# Altium footprint library Stove_Light.PcbLib: 127 footprints (part 8 of 8)
Each footprint in its own frame and in the unit in brackets; x right, y up, seen from the top. Pads: shape width x height; smd on the part's side, far side on the other; paste and mask are expansions set on the pad; w line width, h text height; cw(c..) or ccw(c..) is an arc to the next point about the centre after c.
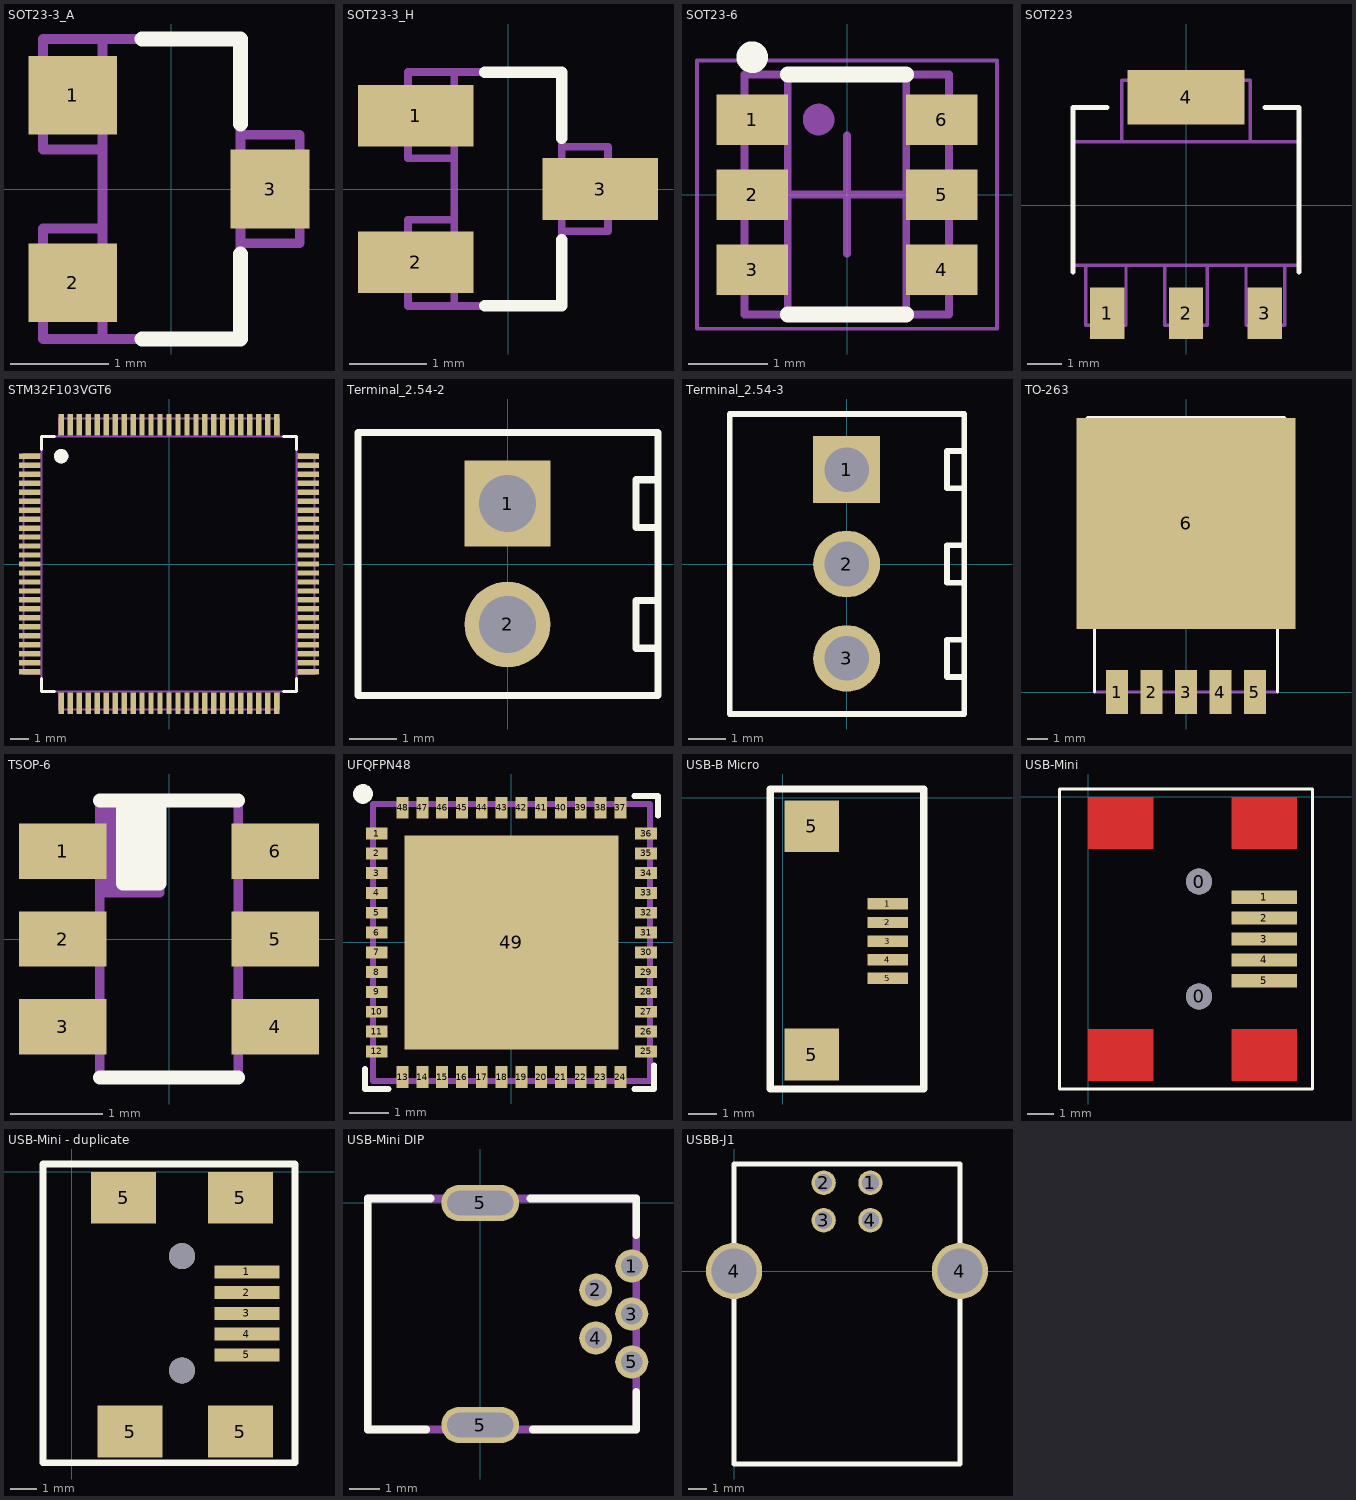
[diagram p7: the footprints below, top view; thin cyan lines are the x and y axes]

## SOT23-3_A [mm]
height 1.12
pads (3):
  rect 0.9x0.8 smd: 1(-1,0.95) 2(-1,-0.95)
  rect 0.8x0.8 smd: 3(1,0)
Top Overlay:
  lines w0.15: -0.3,-1.52 0.7,-1.52 0.7,-0.66 ; -0.3,1.52 0.7,1.52 0.7,0.66
Mechanical 9:
  text ".Designator" at -0.71,1.79 h0.8
  text ".Comment" at -0.73,-2.2 h0.8
Mechanical 11:
  lines w0.1: -0.7,-1.52 -0.7,1.52 ; -0.7,-0.4 -1.3,-0.4 -1.3,-1.52 0.7,-1.52 0.7,1.52 -1.3,1.52 -1.3,0.4 -0.7,0.4 ; 0.7,-0.55 1.3,-0.55 1.3,0.55 0.7,0.55
3D body: height 1.1, standoff 0, extent -1.15,-1.5 1.15,1.5

## SOT23-3_H [mm]
height 1.12
pads (3):
  rect 1.5x0.8 smd: 1(-1.2,0.95) 2(-1.2,-0.95) 3(1.2,0)
Top Overlay:
  lines w0.15: -0.3,-1.52 0.7,-1.52 0.7,-0.66 ; -0.3,1.52 0.7,1.52 0.7,0.66
Mechanical 7:
  lines w0.1: -0.7,-1.52 -0.7,1.52 ; -0.7,-0.4 -1.3,-0.4 -1.3,-1.52 0.7,-1.52 0.7,1.52 -1.3,1.52 -1.3,0.4 -0.7,0.4 ; 0.7,-0.55 1.3,-0.55 1.3,0.55 0.7,0.55
Mechanical 10:
  text ".Designator" at -0.71,1.79 h0.8
  text ".Comment" at -0.74,-2.17 h0.6
3D body: height 1.1, standoff 0, extent -1.15,-1.5 1.15,1.5

## SOT23-6 [mm]
height 1.12
pads (6):
  rect 0.9x0.64 smd: 1(-1.2,0.95) 2(-1.2,0) 3(-1.2,-0.95) 4(1.2,-0.95) 5(1.2,0) 6(1.2,0.95)
Top Overlay:
  circle w0.2: c-1.2,1.74 r0.1
  lines w0.2: -0.75,-1.52 0.75,-1.52 ; -0.75,1.52 0.75,1.52
Mechanical 9:
  text ".Comment" at -1,-0.75 h0.8
  text ".Designator" at -1,0.25 h1
Mechanical 11:
  circle w0.2: c-0.36,0.95 r0.1
  lines w0.1: -0.75,-1.52 -0.75,1.52 ; 0.75,-1.52 0.75,1.52 ; -1.3,-1.52 1.29,-1.52 1.29,1.52 -1.3,1.52 -1.3,-1.52
Mechanical 15:
  lines w0.05: -1.9,-1.7 1.9,-1.7 1.9,1.7 -1.9,1.7 -1.9,-1.7
  lines w0.1: -0.75,0 0.75,0 ; 0,-0.75 0,0.75
3D body: height 1.09, standoff 0, extent -1.126,-1.397 1.3,1.397

## SOT223 [mm]
pads (4):
  rect 1x1.5 smd: 1(-2.3,-3.15) 2(0,-3.15) 3(2.3,-3.15)
  rect 3.4x1.6 smd: 4(0,3.15)
Top Overlay:
  lines w0.15: -3.3,-1.95 -3.3,2.85 -2.3,2.85 ; 2.3,2.85 3.3,2.85 3.3,-1.95
Mechanical 7:
  lines w0.1: -2.9,-1.75 -2.925,-1.775 -2.925,-3.5 -1.75,-3.5 -1.75,-1.75 ; -1.875,1.875 -1.875,3.65 1.875,3.65 1.875,1.85 ; -0.625,-1.75 -0.625,-3.5 0.625,-3.5 0.625,-1.75 ; 1.75,-1.75 1.75,-3.5 2.875,-3.5 2.875,-1.75 ; -3.3,-1.75 -3.3,1.85 3.3,1.85 3.3,-1.75 -3.3,-1.75
3D body: height 0.5, standoff 0.1, extent 1.75,-3.5 2.875,-1.75
3D body: height 0.5, standoff 0.1, extent -0.625,-3.5 0.625,-1.75
3D body: height 0.5, standoff 0.1, extent -2.95,-3.5 -1.75,-1.75
3D body: height 0.5, standoff 0.1, extent -1.875,1.825 1.875,3.65
3D body: height 1.7, standoff 0, extent -3.3,-1.75 3.3,1.85

## STM32F103VGT6 [mm] "Микроконтроллер"
pads (100):
  rect 1.2x0.3 smd: 1(-7.75,6) 2(-7.75,5.5) 3(-7.75,5) 4(-7.75,4.5) 5(-7.75,4) 6(-7.75,3.5) 7(-7.75,3) 8(-7.75,2.5) 9(-7.75,2) 10(-7.75,1.5) 11(-7.75,1) 12(-7.75,0.5) 13(-7.75,0) 14(-7.75,-0.5) 15(-7.75,-1) 16(-7.75,-1.5) 17(-7.75,-2) 18(-7.75,-2.5) 19(-7.75,-3) 20(-7.75,-3.5) 21(-7.75,-4) 22(-7.75,-4.5) 23(-7.75,-5) 24(-7.75,-5.5) 25(-7.75,-6) 51(7.75,-6) 52(7.75,-5.5) 53(7.75,-5) 54(7.75,-4.5) 55(7.75,-4) 56(7.75,-3.5) 57(7.75,-3) 58(7.75,-2.5) 59(7.75,-2) 60(7.75,-1.5) 61(7.75,-1) 62(7.75,-0.5) 63(7.75,0) 64(7.75,0.5) 65(7.75,1) 66(7.75,1.5) 67(7.75,2) 68(7.75,2.5) 69(7.75,3) 70(7.75,3.5) 71(7.75,4) 72(7.75,4.5) 73(7.75,5) 74(7.75,5.5) 75(7.75,6)
  rect 0.3x1.2 smd: 26(-6,-7.75) 27(-5.5,-7.75) 28(-5,-7.75) 29(-4.5,-7.75) 30(-4,-7.75) 31(-3.5,-7.75) 32(-3,-7.75) 33(-2.5,-7.75) 34(-2,-7.75) 35(-1.5,-7.75) 36(-1,-7.75) 37(-0.5,-7.75) 38(0,-7.75) 39(0.5,-7.75) 40(1,-7.75) 41(1.5,-7.75) 42(2,-7.75) 43(2.5,-7.75) 44(3,-7.75) 45(3.5,-7.75) 46(4,-7.75) 47(4.5,-7.75) 48(5,-7.75) 49(5.5,-7.75) 50(6,-7.75) 76(6,7.75) 77(5.5,7.75) 78(5,7.75) 79(4.5,7.75) 80(4,7.75) 81(3.5,7.75) 82(3,7.75) 83(2.5,7.75) 84(2,7.75) 85(1.5,7.75) 86(1,7.75) 87(0.5,7.75) 88(0,7.75) 89(-0.5,7.75) 90(-1,7.75) 91(-1.5,7.75) 92(-2,7.75) 93(-2.5,7.75) 94(-3,7.75) 95(-3.5,7.75) 96(-4,7.75) 97(-4.5,7.75) 98(-5,7.75) 99(-5.5,7.75) 100(-6,7.75)
Top Overlay:
  circle w0.4: c-6,6 r0.2
  lines w0.15: -7.1,-6.375 -7.1,-7.1 -6.375,-7.1 ; -7.1,6.375 -7.1,7.1 -6.375,7.1 ; 6.375,-7.1 7.1,-7.1 7.1,-6.375 ; 6.375,7.1 7.1,7.1 7.1,6.375
Mechanical 7:
  circle w0.4: c-6,6 r0.2
  lines w0.1: -7.1,-6.135 -8.1,-6.135 -8.1,6.135 -7.1,6.135 ; -6.135,-7.1 -6.135,-8.1 6.135,-8.1 6.135,-7.1 ; -6.135,7.1 -6.135,8.1 6.135,8.1 6.135,7.1 ; 7.1,-6.135 8.1,-6.135 8.1,6.135 7.1,6.135 ; -7.1,-7.1 7.1,-7.1 7.1,7.1 -7.1,7.1 -7.1,-7.1
Mechanical 10:
  text ".Designator" at -1.2,0.155 h0.8
  text ".Comment" at -1.08,-0.495 h0.6
3D body: height 0.9, standoff 0, extent -6.135,-8.1 6.135,-7.1
3D body: height 0.9, standoff 0, extent 7.1,-6.135 8.1,6.135
3D body: height 0.9, standoff 0, extent -8.1,-6.135 -7.1,6.135
3D body: height 0.9, standoff 0, extent -6.135,7.1 6.135,8.1
3D body: height 1.6, standoff 0, extent -7.1,-7.1 7.1,7.1

## Terminal_2.54-2 [mm]
height 8.5
pads (2):
  rect 1.8x1.8 hole 1.2: 1(0,1.27)
  round 1.8 hole 1.2: 2(0,-1.27)
Top Overlay:
  lines w0.15: 3.16,-1.77 2.7,-1.77 2.7,-0.77 3.16,-0.77 ; 3.16,0.77 2.7,0.77 2.7,1.77 3.16,1.77 ; -3.14,-2.765 -3.14,2.765 3.16,2.765 3.16,-2.765 -3.14,-2.765
Mechanical 9:
  text ".Comment" at -1.15,3.275 h0.6
  text ".Designator" at -1.175,3.975 h0.8
Mechanical 11:
  lines w0.1: 3.16,-1.77 2.7,-1.77 2.7,-0.77 3.16,-0.77 ; 3.16,0.77 2.7,0.77 2.7,1.77 3.16,1.77 ; -3.14,-2.765 3.16,-2.765 3.16,2.765 -3.14,2.765 -3.14,-2.765
3D body: height 8.5, standoff -3.5, extent -3.075,-2.775 3.125,2.765

## Terminal_2.54-3 [mm]
height 8.5
pads (3):
  rect 1.8x1.8 hole 1.2: 1(0,2.54)
  round 1.8 hole 1.2: 2(0,0) 3(0,-2.54)
Top Overlay:
  lines w0.15: 3.16,-3.04 2.7,-3.04 2.7,-2.04 3.16,-2.04 ; 3.16,-0.5 2.7,-0.5 2.7,0.5 3.16,0.5 ; 3.16,2.04 2.7,2.04 2.7,3.04 3.16,3.04 ; -3.14,-4.035 -3.14,4.035 3.16,4.035 3.16,-4.035 -3.14,-4.035
Mechanical 7:
  lines w0.1: 3.16,-3.04 2.7,-3.04 2.7,-2.04 3.16,-2.04 ; 3.16,-0.5 2.7,-0.5 2.7,0.5 3.16,0.5 ; 3.16,2.04 2.7,2.04 2.7,3.04 3.16,3.04 ; -3.14,-4.035 3.16,-4.035 3.16,4.035 -3.14,4.035 -3.14,-4.035
Mechanical 10:
  text ".Comment" at -1.15,4.545 h0.6
  text ".Designator" at -1.175,5.245 h0.8
3D body: height 8.5, standoff 0, extent -3.14,-4.035 3.16,4.035

## TO-263 [mm]
pads (6):
  rect 1.07x2.16 smd: 1(-3.4,0) 2(-1.7,0) 3(0,0) 4(1.7,0) 5(3.4,0)
  rect 10.8x10.41 smd: 6(0,8.315)
Top Overlay:
  lines w0.15: -5.258,12.27 5.232,12.27 ; -4.51,0 -4.51,3.7 ; 4.51,0 4.51,3.7 ; -5.258,3.7 5.232,3.7 5.232,13.168 4.86,13.54 -4.86,13.54 -5.258,13.142 -5.258,3.7
Mechanical 7:
  lines w0.15: -5.25,12.27 -5.25,3.7 5.25,3.7 5.25,12.27 ; -4.51,3.7 -4.51,0 4.51,0 4.51,3.7 ; -5.1,12.27 -5.1,12.4 -3.96,13.54 3.962,13.54 5.232,12.27 -5.1,12.27
Mechanical 10:
  text ".Comment" at -1.3,17 h0.7
  text ".Designator" at -1.3,-2.8 h0.7
3D body: height 4.58, standoff 0, extent -5.08,-0.9 5.1,13.45

## TSOP-6 [mm]
height 1
pads (6):
  rect 0.95x0.6 smd mask+0: 1(-1.15,0.95) 2(-1.15,0) 3(-1.15,-0.95) 4(1.15,-0.95) 5(1.15,0) 6(1.15,0.95)
Top Overlay:
  rectangle: -0.5,0.6 -0.1,1.5
  lines w0.15: -0.75,-1.5 0.75,-1.5 ; -0.75,1.5 0.75,1.5 ; -0.5,1.5 -0.5,0.6 -0.1,0.6 -0.1,1.5
Mechanical 7:
  rectangle: -0.75,0.5 -0.1,1.5
  lines w0.1: -0.75,0.5 -0.1,0.5 -0.1,1.5 ; 0.7,1.5 -0.75,1.5 -0.75,-1.5 0.75,-1.5 0.75,1.5
Mechanical 10:
  text ".Designator" at -1.1,1.8 h0.8
  text ".Comment" at -0.9,-2.1 h0.6
3D body: height 1, standoff 0, extent -0.8,-1.5 0.8,1.5

## UFQFPN48 [mm]
pads (49):
  rect 0.55x0.3 smd: 1(-3.4,2.75) 2(-3.4,2.25) 3(-3.4,1.75) 4(-3.4,1.25) 5(-3.4,0.75) 6(-3.4,0.25) 7(-3.4,-0.25) 8(-3.4,-0.75) 9(-3.4,-1.25) 10(-3.4,-1.75) 11(-3.4,-2.25) 12(-3.4,-2.75) 25(3.4,-2.75) 26(3.4,-2.25) 27(3.4,-1.75) 28(3.4,-1.25) 29(3.4,-0.75) 30(3.4,-0.25) 31(3.4,0.25) 32(3.4,0.75) 33(3.4,1.25) 34(3.4,1.75) 35(3.4,2.25) 36(3.4,2.75)
  rect 0.3x0.55 smd: 13(-2.75,-3.4) 14(-2.25,-3.4) 15(-1.75,-3.4) 16(-1.25,-3.4) 17(-0.75,-3.4) 18(-0.25,-3.4) 19(0.25,-3.4) 20(0.75,-3.4) 21(1.25,-3.4) 22(1.75,-3.4) 23(2.25,-3.4) 24(2.75,-3.4) 37(2.75,3.4) 38(2.25,3.4) 39(1.75,3.4) 40(1.25,3.4) 41(0.75,3.4) 42(0.25,3.4) 43(-0.25,3.4) 44(-0.75,3.4) 45(-1.25,3.4) 46(-1.75,3.4) 47(-2.25,3.4) 48(-2.75,3.4)
  rect 5.4x5.4 smd: 49(0,0)
Top Overlay:
  circle w0.25: c-3.75,3.75 r0.125
  lines w0.15: -3.7,-3.2 -3.7,-3.7 -3.1,-3.7 ; 3.1,-3.7 3.6,-3.7 3.6,-3.1 ; 3.1,3.7 3.7,3.7 3.7,3.2
Mechanical 7:
  lines w0.15: -3.5,-3.5 3.5,-3.5 3.5,3.5 -3.5,3.5 -3.5,-3.5
3D body: height 0.6, standoff 0, extent -3.5,-3.5 3.5,3.5

## USB-B Micro [mm]
pads (7):
  rect 1.4x0.4 smd: 1(3.65,-3.7) 2(3.65,-4.35) 3(3.65,-5) 4(3.65,-5.65) 5(3.65,-6.3)
  rect 1.9x1.8 smd: 5(1,-8.95) 5(1,-1)
Top Overlay:
  lines w0.254: -0.44,-10.15 -0.44,0.3 4.9,0.3 4.9,-10.15 -0.44,-10.15
3D body: height 2.64, standoff -0.28, extent -1.7,-8.974 3.726,-1

## USB-Mini [mm]
pads (7):
  round 1 hole 1 mask+0: 0(4.25,-7.65) 0(4.25,-3.25)
  rect 2.5x0.5 smd: 1(6.75,-3.85) 2(6.75,-4.65) 3(6.75,-5.45) 4(6.75,-6.25) 5(6.75,-7.05)
Top Layer:
  rectangle: 5.5,-2 8,0
  rectangle: 5.5,-10.9 8,-8.9
  rectangle: 0,-2 2.5,0
  rectangle: 0,-10.9 2.5,-8.9
Top Overlay:
  lines w0.1: -1.1,-11.2 -1.1,0.3 8.6,0.3 8.6,-11.2 -1.1,-11.2
3D body: height 4.14, standoff -0.95, extent -1.7,-10.4 7.5,-0.5

## USB-Mini - duplicate [mm]
height 2
pads (11):
  rect 2.5x0.5 smd: 1(6.75,-3.85) 2(6.75,-4.65) 3(6.75,-5.45) 4(6.75,-6.25) 5(6.75,-7.05)
  rect 2.5x2 smd: 5(2,-1) 5(2.25,-10) 5(6.5,-10) 5(6.5,-1)
  round 1 hole 1 mask+0: ""(4.25,-7.65)
  round 1 hole 1 unplated mask+0: ""(4.25,-3.25)
Top Overlay:
  lines w0.254: -1.1,-11.2 -1.1,0.3 8.6,0.3 8.6,-11.2 -1.1,-11.2
3D body: height 3.9, standoff -0.05, extent -1.825,-10.45 7.175,-0.55

## USB-Mini DIP [mm]
height 3.9
pads (7):
  round 1.1 hole 0.7: 1(5.05,-2.1) 2(3.85,-2.9) 3(5.05,-3.7) 4(3.85,-4.5) 5(5.05,-5.3)
  oval 2.6x1.2 hole 0.8 slot 2.2 at 0 deg: 5(0,-7.4) 5(0,0)
Top Overlay:
  lines w0.254: -1.8,-7.55 -3.75,-7.55 -3.75,0.15 -1.65,0.15 ; 1.675,0.15 5.2,0.15 5.2,-1.075 ; 1.75,-7.55 5.2,-7.55 5.2,-6.3
Mechanical 7:
  lines w0.254: -3.75,-7.55 5.2,-7.55 5.2,0.15 -3.75,0.15 -3.75,-7.55
3D body: height 3.9, standoff 0, extent -3.749,-7.549 5.199,0.149

## USBB-J1 [mm]
pads (6):
  round 1.3 hole 0.92: 1(7.27,4.71) 2(4.77,4.71) 3(4.77,2.71) 4(7.27,2.71)
  round 3 hole 2.4: 4(0,0) 4(12.04,0)
Top Overlay:
  lines w0.254: 12,5.71 0,5.71 0,-10.29 12.04,-10.29 12.04,5.71
3D body: height 11, standoff -3.64, extent -1.398,-10.3 13.398,6.2